# Altium footprint library PcbLib1.PcbLib: 18 footprints (part 1 of 2)
Each footprint in its own frame and in the unit in brackets; x right, y up, seen from the top. Pads: shape width x height; smd on the part's side, far side on the other; paste and mask are expansions set on the pad; w line width, h text height; cw(c..) or ccw(c..) is an arc to the next point about the centre after c.
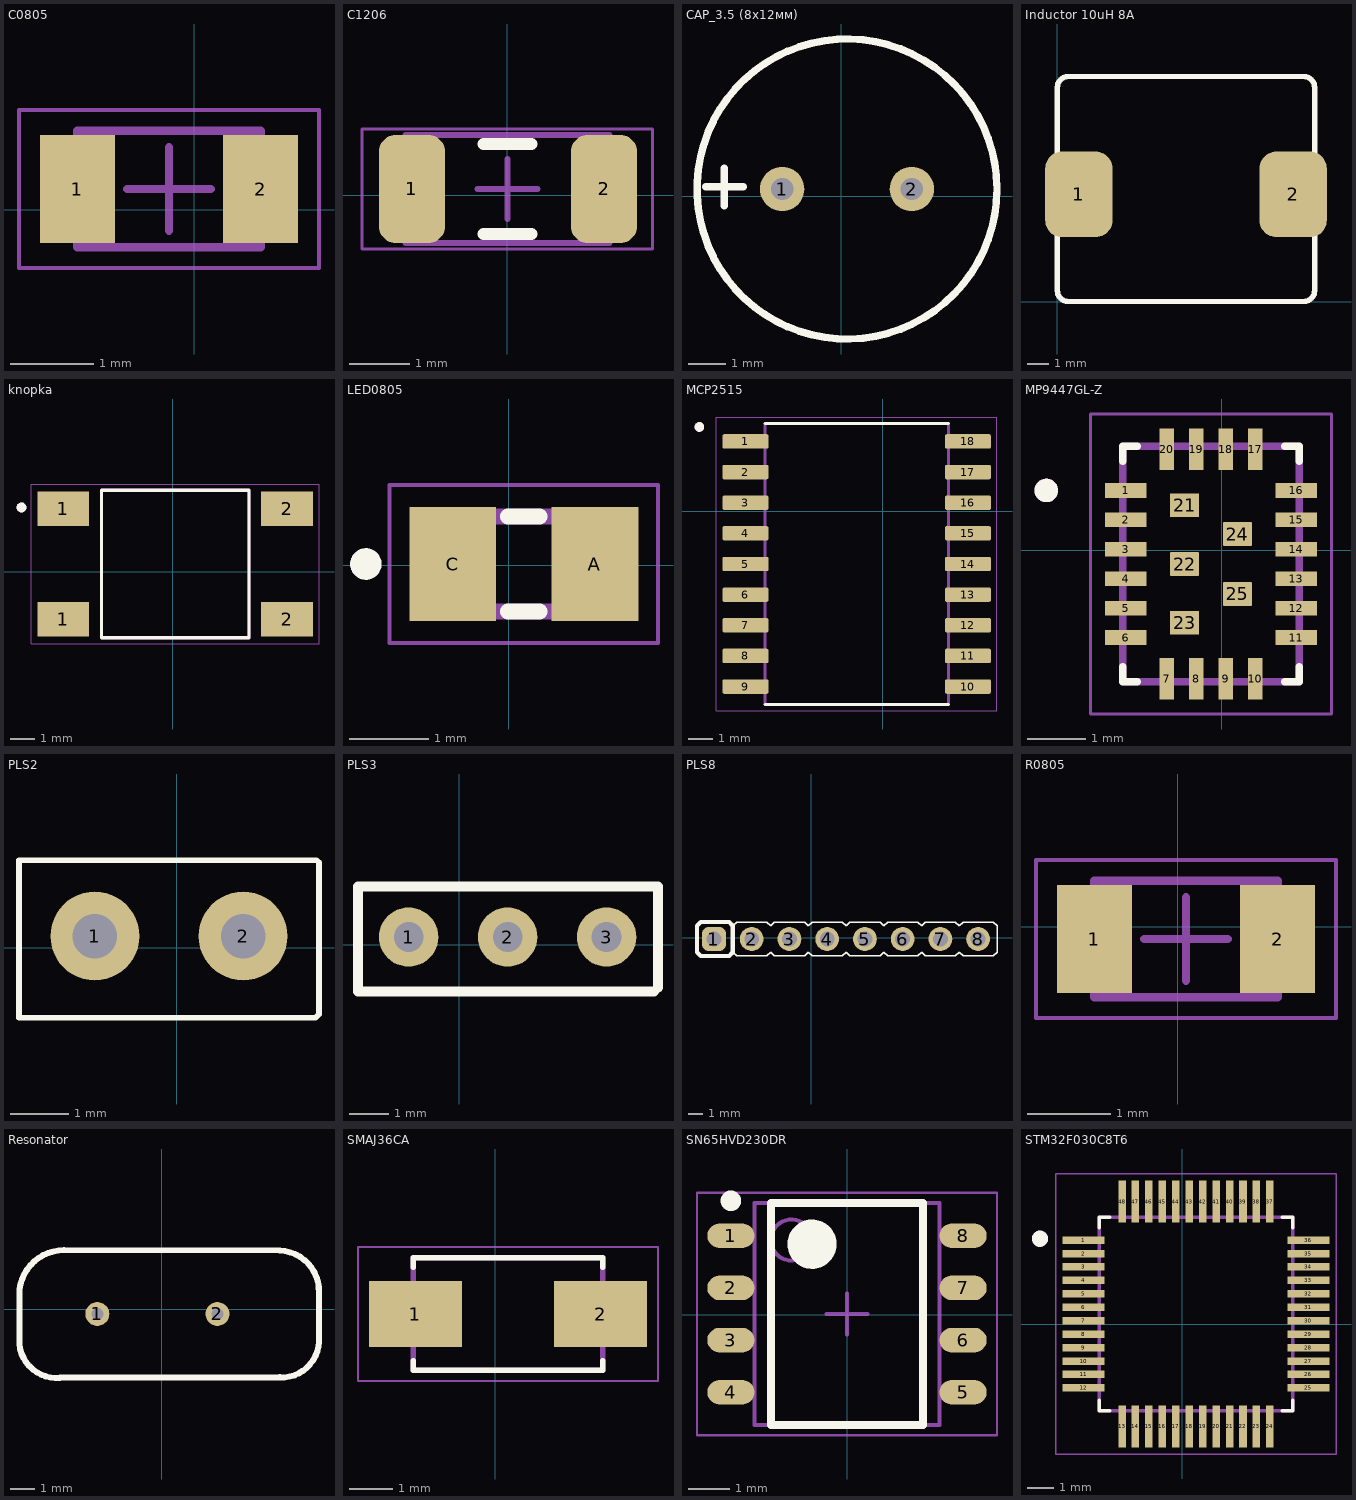
[diagram p0: the footprints below, top view; thin cyan lines are the x and y axes]

## C0805 [mm]
pads (2):
  rect 0.9x1.3 smd: 1(-1.4,0.25) 2(0.8,0.25)
Mechanical 13:
  lines w0.1: -1.4,-0.45 0.8,-0.45 0.8,0.95 -1.4,0.95 -1.4,-0.45
Mechanical 15:
  lines w0.05: -2.1,-0.7 1.5,-0.7 1.5,1.2 -2.1,1.2 -2.1,-0.7
  lines w0.1: -0.8,0.25 0.2,0.25 ; -0.3,-0.25 -0.3,0.75
3D body "c0805.stp": height 0.82, standoff -0.06, extent -1.4,-0.47 0.8,0.98

## C1206 [mm]
pads (2):
  rrect50% 1.1x1.8 smd mask+0.05: 1(-1.59,0.1) 2(1.61,0.1)
Top Overlay:
  lines w0.2: -0.4,-0.65 0.4,-0.65 ; -0.4,0.85 0.4,0.85
Mechanical 13:
  lines w0.1: -1.7,-0.8 -1.7,1 1.7,1 1.7,-0.8 -1.7,-0.8
Mechanical 15:
  lines w0.05: -2.42,-0.9 -2.42,1.1 2.42,1.1 2.42,-0.9 -2.42,-0.9
  lines w0.1: -0.5,0.1 0.5,0.1 ; 0,-0.4 0,0.6
3D body "User Library-1206 SMD Capacitor.step": height 1.01, standoff 0.01, extent -1.6,-0.7 1.6,0.9

## CAP_3.5 (8x12мм) [mm]
pads (2):
  round 1.2 hole 0.6: 1(-1.6,0.2) 2(1.9,0.2)
Top Overlay:
  circle w0.2: c0.15,0.2 r4.05
  lines w0.2: -3.668,0.26 -2.652,0.26 ; -3.16,-0.248 -3.16,0.768
3D body "Cap-EL(8x12-3_5)T.step": height 12.3, standoff -3.3, extent -3.86,-3.788 4.142,4.208

## Inductor 10uH 8A [mm]
pads (2):
  rrect50% 3.15x4 smd: 1(1,5) 2(11,5)
Top Overlay:
  lines w0.254: 0,0.5 ccw(c0.5,0.5) 0.5,0 11.5,0 ccw(c11.5,0.5) 12,0.5 12,10 ccw(c11.5,10) 11.5,10.5 0.5,10.5 ccw(c0.5,10) 0,10 0,0.5
3D body "ihlp4040dzer100m01.stp": height 3.78, standoff -0.1, extent 0.689,0.284 11.311,10.5

## knopka [mm]
pads (4):
  rect 2.1x1.4 smd: 1(-4.446,-1.926) 1(-4.446,2.574) 2(4.654,-1.926) 2(4.654,2.574)
Top Overlay:
  circle w0.2: c-6.146,2.624 r0.1
  lines w0.127: -2.896,-2.676 3.104,-2.676 3.104,3.324 -2.896,3.324 -2.896,-2.676
Mechanical 13:
  circle w0.2: c-6.146,2.624 r0.1
  lines w0.127: -2.896,-2.676 -2.896,3.324 3.104,3.324 3.104,-2.676 -2.896,-2.676
Mechanical 15:
  lines w0.05: -5.746,-2.926 -5.746,3.574 5.954,3.574 5.954,-2.926 -5.746,-2.926
3D body "step_temp.STEP": height 4.59, standoff 0, extent -4.896,-2.676 5.104,3.324

## LED0805 [mm]
pads (2):
  rect 1.1x1.45 smd: A(1.091,0.016) C(-0.709,0.016)
Top Overlay:
  circle w0.2: c-1.809,0.016 r0.1
  lines w0.2: -0.009,-0.584 0.391,-0.584 ; -0.009,0.616 0.391,0.616
Mechanical 13:
  region: -0.309,-0.584 -0.809,-0.584 -0.809,0.616 -0.309,0.616
  region: 1.191,-0.584 0.691,-0.584 0.691,0.616 1.191,0.616
  lines w0.2: -0.809,-0.584 1.191,-0.584 1.191,0.616 -0.809,0.616 -0.809,-0.584
Mechanical 15:
  lines w0.05: -1.509,-0.984 1.891,-0.984 1.891,1.016 -1.509,1.016 -1.509,-0.984
3D body "step_temp.STEP": height 0.7, standoff 0, extent -0.809,-0.609 1.191,0.641

## MCP2515 [mm]
pads (18):
  rrect25% 1.91x0.6 smd: 1(-5.687,2.897) 2(-5.687,1.627) 3(-5.687,0.357) 4(-5.687,-0.913) 5(-5.687,-2.183) 6(-5.687,-3.453) 7(-5.687,-4.723) 8(-5.687,-5.993) 9(-5.687,-7.263) 10(3.533,-7.263) 11(3.533,-5.993) 12(3.533,-4.723) 13(3.533,-3.453) 14(3.533,-2.183) 15(3.533,-0.913) 16(3.533,0.357) 17(3.533,1.627) 18(3.533,2.897)
Top Overlay:
  circle w0.2: c-7.597,3.497 r0.1
  lines w0.127: -4.877,-8.008 2.723,-8.008 ; -4.877,3.642 2.723,3.642
Mechanical 13:
  circle w0.2: c-7.597,3.497 r0.1
  lines w0.127: -4.877,-8.008 -4.877,3.642 2.723,3.642 2.723,-8.008 -4.877,-8.008
Mechanical 15:
  lines w0.05: -6.892,-8.258 -6.892,3.892 4.738,3.892 4.738,-8.258 -6.892,-8.258
3D body "step_temp.STEP": height 2.65, standoff 0, extent -6.227,-7.958 4.073,3.592

## MP9447GL-Z [mm]
pads (25):
  rect 0.7x0.25 smd paste+0 mask+0.102: 1(-1.632,1.02) 2(-1.632,0.52) 3(-1.632,0.02) 4(-1.632,-0.48) 5(-1.632,-0.98) 6(-1.632,-1.48) 11(1.268,-1.48) 12(1.268,-0.98) 13(1.268,-0.48) 14(1.268,0.02) 15(1.268,0.52) 16(1.268,1.02)
  rect 0.25x0.7 smd paste+0 mask+0.102: 7(-0.932,-2.18) 8(-0.432,-2.18) 9(0.068,-2.18) 10(0.568,-2.18) 17(0.568,1.72) 18(0.068,1.72) 19(-0.432,1.72) 20(-0.932,1.72)
  rrect5% 0.5x0.4 smd paste+0 mask+0.102: 21(-0.632,0.77) 22(-0.632,-0.23) 23(-0.632,-1.23) 24(0.268,0.28) 25(0.268,-0.74)
Top Overlay:
  circle w0.2: c-2.982,1.02 r0.1
  lines w0.127: -1.682,-1.98 -1.682,-2.23 -1.432,-2.23 ; -1.682,1.52 -1.682,1.77 -1.432,1.77 ; 1.068,-2.23 1.318,-2.23 1.318,-1.98 ; 1.068,1.77 1.318,1.77 1.318,1.52
Mechanical 13:
  circle w0.2: c-2.982,1.02 r0.1
  lines w0.127: -1.682,-2.23 -1.682,1.77 1.318,1.77 1.318,-2.23 -1.682,-2.23
Mechanical 15:
  lines w0.05: -2.232,-2.78 -2.232,2.32 1.868,2.32 1.868,-2.78 -2.232,-2.78
3D body "step_temp.STEP": height 1, standoff 0, extent -1.682,-2.23 1.318,1.77

## PLS2 [mil] "шаг - 0.254мм"
pads (2):
  round 60 hole 30: 1(-55.12,7.87) 2(44.88,7.87)
Top Overlay:
  lines w3.94: 94.49,59.06 -106.3,59.06 -106.3,7.87 -106.3,-47.24 -55.12,-47.24 93.7,-47.24 ; 96.06,57.52 96.06,7.87 96.06,-44.88 ; 93.7,-47.24 96.06,-44.88 ; 93.7,-47.24 96.06,-44.88

## PLS3 [mil]
pads (3):
  round 60 hole 30: 1(-51.18,7.87) 2(48.82,7.87) 3(148.82,7.87)
Top Overlay:
  lines w3.94: -102.36,59.06 98.43,59.06
  lines w10: 196.85,-47.24 -102.36,-47.24 -102.36,59.06 200.79,59.06 200.79,-43.31

## PLS8 [mm]
pads (8):
  rrect50% 1.6x1.6 hole 1: 1(-6.55,-0.1)
  round 1.6 hole 1: 2(-4.01,-0.1) 3(-1.47,-0.1) 4(1.07,-0.1) 5(3.61,-0.1) 6(6.15,-0.1) 7(8.69,-0.1) 8(11.23,-0.1)
Top Overlay:
  lines w0.1: -5.28,-0.989 -5.026,-1.243 -2.994,-1.243 -2.74,-0.989 -2.486,-1.243 -0.454,-1.243 -0.2,-0.989 0.054,-1.243 2.086,-1.243 2.34,-0.989 2.594,-1.243 4.626,-1.243 4.88,-0.989 5.134,-1.243 7.166,-1.243 7.42,-0.989 7.674,-1.243 9.706,-1.243 9.96,-0.989 10.214,-1.243 12.246,-1.243 12.5,-0.989 ; -5.28,0.789 -5.026,1.043 -2.994,1.043 -2.74,0.789 -2.486,1.043 -0.454,1.043 -0.2,0.789 0.054,1.043 2.086,1.043 2.34,0.789 2.594,1.043 4.626,1.043 4.88,0.789 5.134,1.043 7.166,1.043 7.42,0.789 7.674,1.043 9.706,1.043 9.96,0.789 10.214,1.043 12.246,1.043 12.5,0.789 ; 12.5,-0.999 12.5,0.779
  lines w0.3: -7.693,-0.989 -7.693,0.789 -7.439,1.043 -5.534,1.043 -5.28,0.789 -5.28,-0.989 -5.534,-1.243 -7.439,-1.243 -7.693,-0.989
3D body "PLS-8.STEP": height 9.7, standoff -3, extent -7.86,-1.36 12.46,1.18

## R0805 [mm]
pads (2):
  rect 0.9x1.3 smd: 1(-1,-0.15) 2(1.2,-0.15)
Mechanical 13:
  lines w0.1: -1,-0.85 1.2,-0.85 1.2,0.55 -1,0.55 -1,-0.85
Mechanical 15:
  lines w0.05: -1.7,-1.1 1.9,-1.1 1.9,0.8 -1.7,0.8 -1.7,-1.1
  lines w0.1: -0.4,-0.15 0.6,-0.15 ; 0.1,-0.65 0.1,0.35
3D body "R0805.STEP": height 0.47, standoff 0, extent -0.89,-0.766 1.11,0.486

## Resonator [mm]
pads (3):
  round 1 hole 0.5: 1(-2.676,-0.187) 2(2.327,-0.187)
  rect 0.025x0.025 all layers, no hole: йй2(-5.927,-0.413)
Top Overlay:
  lines w0.254: 4.924,-2.838 ccw(c4.997,-1.277) 6.558,-1.35 6.558,0.7 ccw(c4.866,0.758) 4.924,2.451 -4.064,2.471 ccw(c-4.066,0.61) -5.927,0.612 -5.927,-1.438 ccw(c-4.371,-1.293) -4.226,-2.849 4.924,-2.829

## SMAJ36CA [mm]
pads (2):
  rect 2.12x1.5 smd: 1(-1.829,-4.929) 2(2.401,-4.929)
Top Overlay:
  lines w0.127: -1.879,-5.999 -1.879,-6.209 2.451,-6.209 2.451,-5.999 ; -1.879,-3.859 -1.879,-3.649 2.451,-3.649 2.451,-3.859
Mechanical 13:
  lines w0.127: -1.879,-6.209 2.451,-6.209 2.451,-3.649 -1.879,-3.649 -1.879,-6.209
Mechanical 15:
  lines w0.05: -3.139,-6.459 3.711,-6.459 3.711,-3.399 -3.139,-3.399 -3.139,-6.459
3D body "SMAJ36CA.STEP": height 2.5, standoff 0, extent -2.14,-6.06 3,-3.5

## SN65HVD230DR [mm]
pads (8):
  oval 1.15x0.6 smd: 1(-2.831,1.922) 2(-2.831,0.652) 3(-2.831,-0.618) 4(-2.831,-1.888) 5(2.819,-1.888) 6(2.819,-0.618) 7(2.819,0.652) 8(2.819,1.922)
Top Overlay:
  circle w0.6: c-0.856,1.717 r0.3
  circle w0.25: c-2.831,2.772 r0.125
  lines w0.2: -1.856,-2.683 1.844,-2.683 1.844,2.717 -1.856,2.717 -1.856,-2.683
Mechanical 13:
  circle w0.1: c-1.356,1.817 r0.5
  lines w0.1: -2.256,-2.683 2.244,-2.683 2.244,2.717 -2.256,2.717 -2.256,-2.683
Mechanical 15:
  lines w0.05: -3.656,-2.933 3.644,-2.933 3.644,2.967 -3.656,2.967 -3.656,-2.933
  lines w0.1: -0.506,0.017 0.494,0.017 ; -0.006,-0.483 -0.006,0.517
3D body: height 1.8, standoff 0.05, extent -2.256,-2.683 2.244,2.717

## STM32F030C8T6 [mm]
pads (48):
  rect 1.56x0.28 smd: 1(-3.672,3.131) 2(-3.672,2.631) 3(-3.672,2.131) 4(-3.672,1.631) 5(-3.672,1.131) 6(-3.672,0.631) 7(-3.672,0.131) 8(-3.672,-0.369) 9(-3.672,-0.869) 10(-3.672,-1.369) 11(-3.672,-1.869) 12(-3.672,-2.369) 25(4.688,-2.369) 26(4.688,-1.869) 27(4.688,-1.369) 28(4.688,-0.869) 29(4.688,-0.369) 30(4.688,0.131) 31(4.688,0.631) 32(4.688,1.131) 33(4.688,1.631) 34(4.688,2.131) 35(4.688,2.631) 36(4.688,3.131)
  rect 0.28x1.56 smd: 13(-2.242,-3.799) 14(-1.742,-3.799) 15(-1.242,-3.799) 16(-0.742,-3.799) 17(-0.242,-3.799) 18(0.258,-3.799) 19(0.758,-3.799) 20(1.258,-3.799) 21(1.758,-3.799) 22(2.258,-3.799) 23(2.758,-3.799) 24(3.258,-3.799) 37(3.258,4.561) 38(2.758,4.561) 39(2.258,4.561) 40(1.758,4.561) 41(1.258,4.561) 42(0.758,4.561) 43(0.258,4.561) 44(-0.242,4.561) 45(-0.742,4.561) 46(-1.242,4.561) 47(-1.742,4.561) 48(-2.242,4.561)
Top Overlay:
  circle w0.3: c-5.292,3.181 r0.15
  lines w0.127: -3.092,-2.829 -3.092,-3.219 -2.702,-3.219 ; -3.092,3.591 -3.092,3.981 -2.702,3.981 ; 3.718,-3.219 4.108,-3.219 4.108,-2.829 ; 3.718,3.981 4.108,3.981 4.108,3.591
Mechanical 13:
  circle w0.3: c-5.288,3.183 r0.15
  lines w0.127: -3.092,-3.219 4.108,-3.219 4.108,3.981 -3.092,3.981 -3.092,-3.219
Mechanical 15:
  lines w0.05: -4.702,-4.829 5.718,-4.829 5.718,5.591 -4.702,5.591 -4.702,-4.829
3D body "step_temp.STEP": height 1.6, standoff 0, extent -3.992,-4.119 5.008,4.881